# Altium footprint library PcbLib1.PcbLib: 1 footprints
Each footprint in its own frame and in the unit in brackets; x right, y up, seen from the top. Pads: shape width x height; smd on the part's side, far side on the other; paste and mask are expansions set on the pad; w line width, h text height; cw(c..) or ccw(c..) is an arc to the next point about the centre after c.
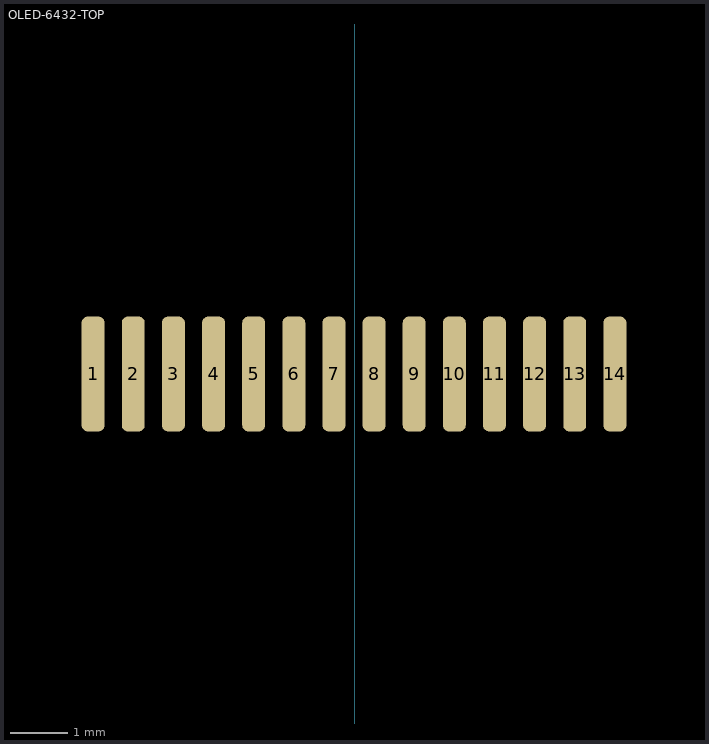
[diagram p0: the footprint, top view; thin cyan lines are the x and y axes]

## OLED-6432-TOP [mm]
pads (14):
  rrect50% 0.4x2 smd: 1(-4.56,7.195) 2(-3.86,7.195) 3(-3.16,7.195) 4(-2.46,7.195) 5(-1.76,7.195) 6(-1.06,7.195) 7(-0.36,7.195) 8(0.34,7.195) 9(1.04,7.195) 10(1.74,7.195) 11(2.44,7.195) 12(3.14,7.195) 13(3.84,7.195) 14(4.54,7.195)
3D body "312.stp": height 3.43, standoff -0.02, extent -7.441,-0.277 7.441,12.096